# Altium schematic symbol library Kite_V1.0.SchLib: 1 symbol
Pins are listed as number, name and electrical type; pins without a type are passive.

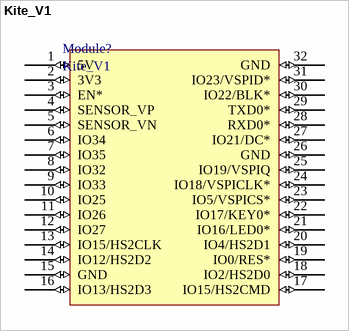
[diagram p0: symbol Kite_V1]

## Kite_V1
designator Module?
footprint Kite_V1.0
pins: 1 5V (io), 2 3V3 (io), 3 EN* (io), 4 SENSOR_VP (io), 5 SENSOR_VN (io), 6 IO34 (io), 7 IO35 (io), 8 IO32 (io), 9 IO33 (io), 10 IO25 (io), 11 IO26 (io), 12 IO27 (io), 13 IO15/HS2CLK (io), 14 IO12/HS2D2 (io), 15 GND (io), 16 IO13/HS2D3 (io), 17 IO15/HS2CMD (io), 18 IO2/HS2D0 (io), 19 IO0/RES* (io), 20 IO4/HS2D1 (io), 21 IO16/LED0* (io), 22 IO17/KEY0* (io), 23 IO5/VSPICS* (io), 24 IO18/VSPICLK* (io), 25 IO19/VSPIQ (io), 26 GND (io), 27 IO21/DC* (io), 28 RXD0* (io), 29 TXD0* (io), 30 IO22/BLK* (io), 31 IO23/VSPID* (io), 32 GND (io)